# Altium integrated library SFV6R-2STBE1HLF.IntLib: 1 symbol
Pins are listed as number, name and electrical type; pins without a type are passive.

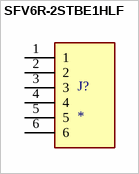
[diagram p0: symbol SFV6R-2STBE1HLF]

## SFV6R-2STBE1HLF
designator J?
MP: SFV6R-2STBE1HLF; Package: None; Price: None; Value: *; Availability: Unavailable
footprint AMPHENOL_SFV6R-2STBE1HLF
pins: 1, 2, 3, 4, 5, 6